# EAGLE library part EDGEMOUNTDE9 (library Serial)
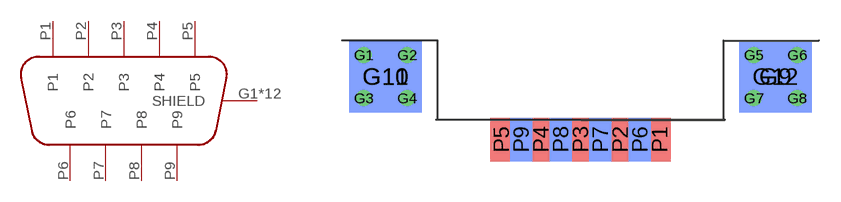
[diagram p0: symbol with the pads of DE09S065TLF; footprint DE09S065TLF]

Designator prefix -

## EDGEMOUNTDE9  [DE09S065TLF]
G1  SHIELD
G2  SHIELD
G3  SHIELD
G4  SHIELD
G5  SHIELD
G6  SHIELD
G7  SHIELD
G8  SHIELD
G9  SHIELD
G10  SHIELD
G11  SHIELD
G12  SHIELD
P1  P1
P2  P2
P3  P3
P4  P4
P5  P5
P6  P6
P7  P7
P8  P8
P9  P9

## Footprint DE09S065TLF (pad centres in mm)
drill 0.6: G1 -15,4.5; G2 -12,4.5; G3 -15,1.5; G4 -12,1.5; G5 12,4.5; G6 15,4.5; G7 12,1.5; G8 15,1.5
smd 5 x 5 bottom: G9 13.5,3; G10 -13.5,3
smd 5 x 5: G11 -13.5,3; G12 13.5,3
smd 1.54 x 3: P1 5.48,-1.37; P2 2.74,-1.37; P3 0,-1.37; P4 -2.74,-1.37; P5 -5.48,-1.37
smd 1.54 x 3 bottom: P6 4.11,-1.37; P7 1.37,-1.37; P8 -1.37,-1.37; P9 -4.11,-1.37